# Altium footprint library MTMM-101-03-T-S-196.PcbLib: 1 footprints
Each footprint in its own frame and in the unit in brackets; x right, y up, seen from the top. Pads: shape width x height; smd on the part's side, far side on the other; paste and mask are expansions set on the pad; w line width, h text height; cw(c..) or ccw(c..) is an arc to the next point about the centre after c.
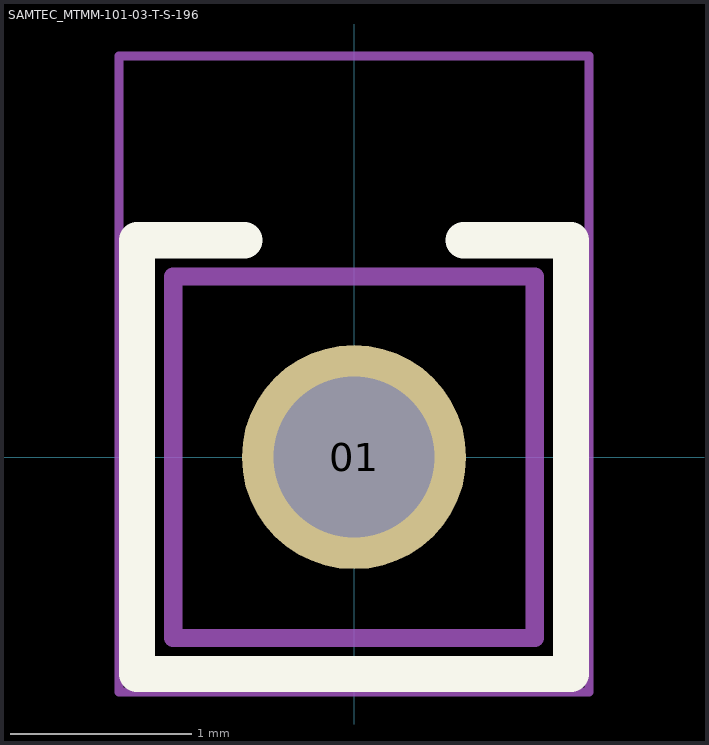
[diagram p0: the footprint, top view; thin cyan lines are the x and y axes]

## SAMTEC_MTMM-101-03-T-S-196 [mm]
pads (1):
  round 1.24 hole 0.89: 01(0,0)
Top Overlay:
  lines w0.2: -0.605,1.2 -1.2,1.2 -1.2,-1.2 1.2,-1.2 1.2,1.2 0.605,1.2
Mechanical 13:
  lines w0.1: -1,-1 -1,1 1,1 1,-1 -1,-1
Mechanical 15:
  lines w0.05: -1.3,-1.3 -1.3,2.22 1.3,2.22 1.3,-1.3 -1.3,-1.3